# EAGLE library part ESP-07/12 (library ESP-12E)
Version 1.0 of the library for the ESP-07/12 full GPIO dev board module byME Jon jonnyradu@gmail.com
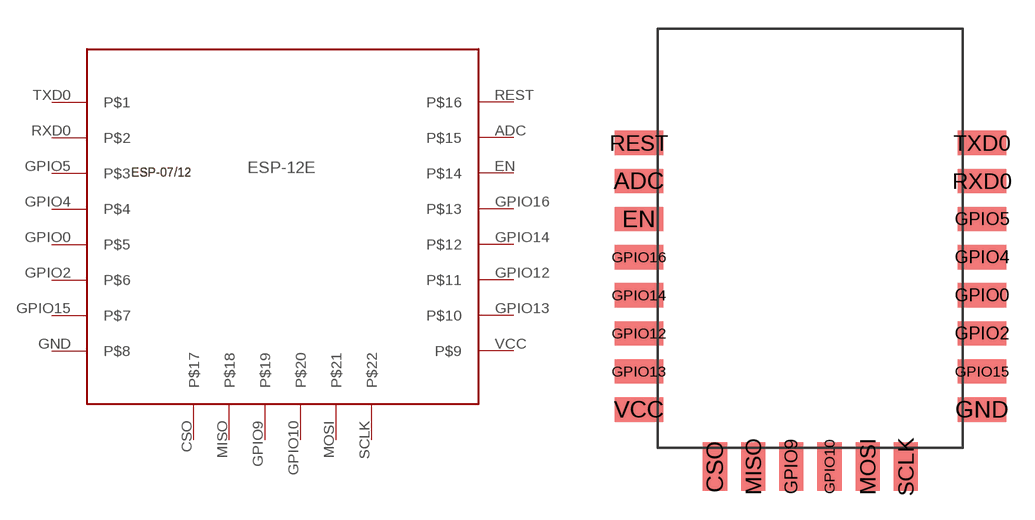
[diagram p0: symbol with the pads of ESP-07/12; footprint ESP-07/12]

Designator prefix -

## ESP-07/12_ESP-12E  [ESP-07/12]
ADC  P$15
CSO  P$17
EN  P$14
GND  P$8
GPIO0  P$5
GPIO2  P$6
GPIO4  P$4
GPIO5  P$3
GPIO9  P$19
GPIO10  P$20
GPIO12  P$11
GPIO13  P$10
GPIO14  P$12
GPIO15  P$7
GPIO16  P$13
MISO  P$18
MOSI  P$21
REST  P$16
RXD0  P$2
SCLK  P$22
TXD0  P$1
VCC  P$9

## Footprint ESP-07/12 (pad centres in mm)
smd 2.54 x 1.27: ADC -1,14; EN -1,12; GND 17,2; GPIO0 17,8; GPIO2 17,6; GPIO4 17,10; GPIO5 17,12; GPIO12 -1,6; GPIO13 -1,4; GPIO14 -1,8; GPIO15 17,4; GPIO16 -1,10; REST -1,16; RXD0 17,14; TXD0 17,16; VCC -1,2
smd 1.27 x 2.54: CSO 3,-1; GPIO9 7,-1; GPIO10 9,-1; MISO 5,-1; MOSI 11,-1; SCLK 13,-1